# Altium footprint library SLW1215865AD.PcbLib: 1 footprints
Each footprint in its own frame and in the unit in brackets; x right, y up, seen from the top. Pads: shape width x height; smd on the part's side, far side on the other; paste and mask are expansions set on the pad; w line width, h text height; cw(c..) or ccw(c..) is an arc to the next point about the centre after c.
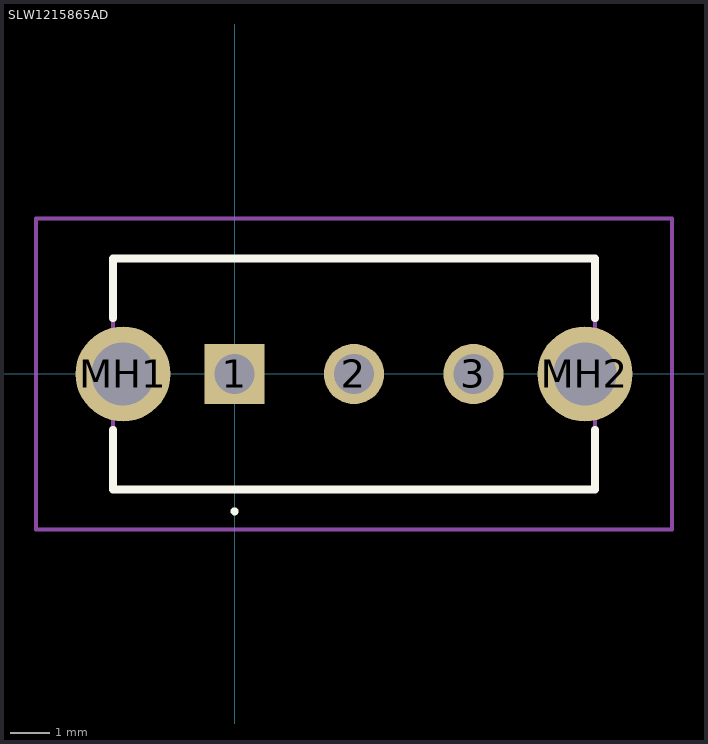
[diagram p0: the footprint, top view; thin cyan lines are the x and y axes]

## SLW1215865AD [mm]
pads (5):
  rect 1.515x1.515 hole 1.01: 1(0,0)
  round 1.515 hole 1.01: 2(3,0) 3(6,0)
  round 2.385 hole 1.59: MH1(-2.8,0) MH2(8.8,0)
Top Overlay:
  lines w0.1: 0,-3.5 cw(c0,-3.45) 0,-3.4 ; 0,-3.5 0,-3.5 ; 0,-3.5 ccw(c0,-3.45) 0,-3.4 ; 0,-3.4 0,-3.4
  lines w0.2: -3.05,-1.4 -3.05,-2.9 9.05,-2.9 9.05,-1.4 ; -3.05,1.4 -3.05,2.9 9.05,2.9 9.05,1.4
Mechanical 15:
  lines w0.1: -3.05,-2.9 9.05,-2.9 9.05,2.9 -3.05,2.9 -3.05,-2.9
Mechanical 20:
  lines w0.1: -4.992,-3.9 10.992,-3.9 10.992,3.9 -4.992,3.9 -4.992,-3.9